# EAGLE library part NIXIE_INTERCONNECT (library TimeExpander)
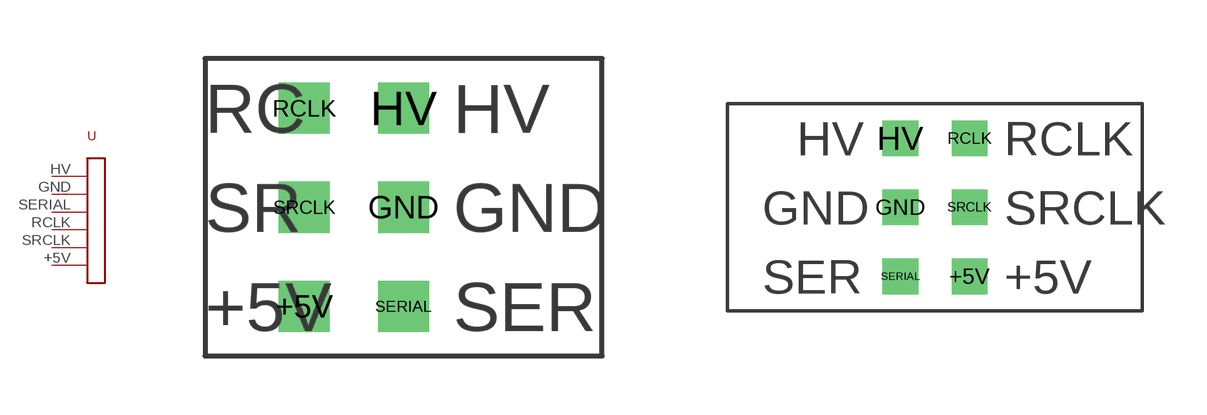
[diagram p8: symbol with the pads of NIXIE_INTERCONNECT_LEFT; footprints NIXIE_INTERCONNECT_LEFT, NIXIE_INTERCONNECT_RIGHT]

Designator prefix -

## NIXIE_INTERCONNECTLEFT  [NIXIE_INTERCONNECT_LEFT]
+5V  +5V
GND  GND
HV  HV
RCLK  RCLK
SERIAL  SERIAL
SRCLK  SRCLK

## NIXIE_INTERCONNECTRIGHT  [NIXIE_INTERCONNECT_RIGHT]
Pads as for NIXIE_INTERCONNECT_LEFT

## Footprint NIXIE_INTERCONNECT_LEFT (pad centres in mm)
drill 0.8 square: +5V -12.7,0; GND -10.16,2.54; HV -10.16,5.08; RCLK -12.7,5.08; SERIAL -10.16,0; SRCLK -12.7,2.54

## Footprint NIXIE_INTERCONNECT_RIGHT (pad centres in mm)
drill 0.8 square: +5V -7.62,0; GND -10.16,2.54; HV -10.16,5.08; RCLK -7.62,5.08; SERIAL -10.16,0; SRCLK -7.62,2.54